# Altium footprint library c0201.PcbLib: 1 footprints
Each footprint in its own frame and in the unit in brackets; x right, y up, seen from the top. Pads: shape width x height; smd on the part's side, far side on the other; paste and mask are expansions set on the pad; w line width, h text height; cw(c..) or ccw(c..) is an arc to the next point about the centre after c.
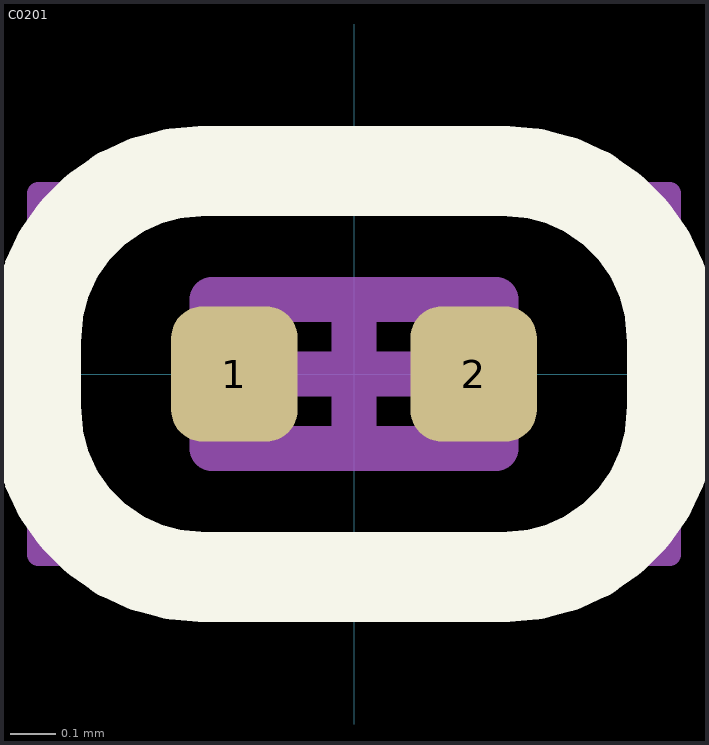
[diagram p0: the footprint, top view; thin cyan lines are the x and y axes]

## C0201 [mm] "Chip Capacitor, 2-Leads, Body 0,60x0,30mm, IPC Medium Density"
height 0.33
pads (2):
  rrect50% 0.28x0.3 smd: 1(-0.265,0) 2(0.265,0)
Top Overlay:
  lines w0.2: -0.705,-0.08 ccw(c-0.335,-0.08) -0.335,-0.45 0.335,-0.45 ccw(c0.335,-0.08) 0.705,-0.08 0.705,0.08 ccw(c0.335,0.08) 0.335,0.45 -0.335,0.45 ccw(c-0.335,0.08) -0.705,0.08 -0.705,-0.08
Top Comment:
  text ".Comment" at 0.635,0.635 h1.2
Top Designator:
  text ".Designator" at -0.635,0.635 h1.2
Top Component Outline:
  lines w0.1: -0.315,-0.165 -0.315,0.165 0.315,0.165 0.315,-0.165 -0.315,-0.165
Top Courtyard (Mech15):
  lines w0.05: -0.7,-0.4 -0.7,0.4 0.7,0.4 0.7,-0.4 -0.7,-0.4
  lines w0.1: -0.165,0 0.165,0 ; 0,-0.165 0,0.165
3D body "User Library-SMD CAPACITOR 0201.STEP": height 0.29, standoff -0.01, extent -0.3,-0.15 0.3,0.15